# EAGLE library part 1-1445055-2 (library con-amp)
Micro MATE-N-LOK Connectors grid 1.5 mm Source: ENG_CD_1445055_A.pdf
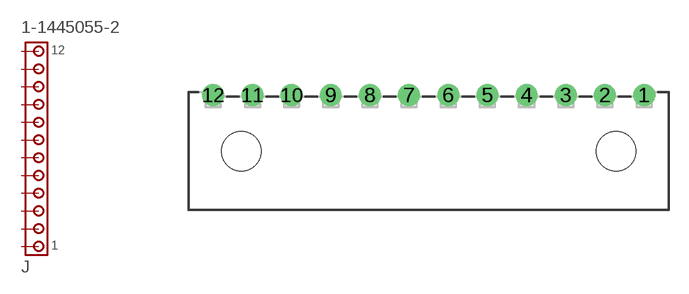
[diagram p133: symbol with the pads of 1-1445055-2; footprint 1-1445055-2]

Designator prefix J

## 1-1445055-2  [1-1445055-2]
1  1  pas
2  2  pas
3  3  pas
4  4  pas
5  5  pas
6  6  pas
7  7  pas
8  8  pas
9  9  pas
10  10  pas
11  11  pas
12  12  pas

## Footprint 1-1445055-2 (pad centres in mm)
Micro MATE-N-LOK Connectors grid 1.5 mm Source: ENG_CD_1445055_A.pdf
drill 1 pad 1.676: 1 16.5,4.32; 2 13.5,4.32; 3 10.5,4.32; 4 7.5,4.32; 5 4.5,4.32; 6 1.5,4.32; 7 -1.5,4.32; 8 -4.5,4.32; 9 -7.5,4.32; 10 -10.5,4.32; 11 -13.5,4.32; 12 -16.5,4.32
hole 3 at -14.35,0
hole 3 at 14.35,0